# EAGLE library part SI5351C (library VNA)
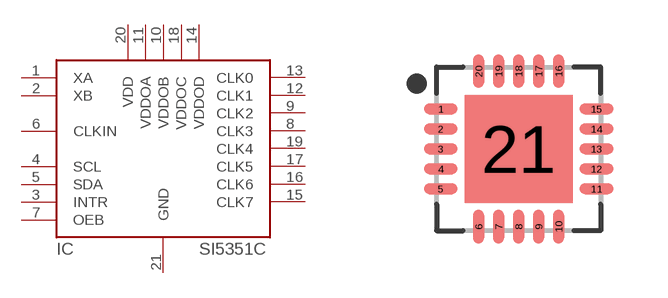
[diagram p1: symbol with the pads of QFN50P400X400X90-21T270N; footprint QFN50P400X400X90-21T270N]

Designator prefix IC

## SI5351C  [QFN50P400X400X90-21T270N]
1  XA
2  XB
3  INTR
4  SCL
5  SDA
6  CLKIN
7  OEB
8  CLK3
9  CLK2
10  VDDOB
11  VDDOA
12  CLK1
13  CLK0
14  VDDOD
15  CLK7
16  CLK6
17  CLK5
18  VDDOC
19  CLK4
20  VDD
21  GND

## Footprint QFN50P400X400X90-21T270N (pad centres in mm)
20-QFN, 0.50 mm pitch, 4.00 X 4.00 X 0.90 mm body, 2.70 X 2.70 mm thermal pad 20-pin QFN package with 0.50 mm pitch with body size 4.00 X 4.00 X 0.90 mm and thermal pad size 2.70 X 2.70 mm
smd 0.838 x 0.27: 1 -1.946,1; 2 -1.946,0.5; 3 -1.946,0; 4 -1.946,-0.5; 5 -1.946,-1; 11 1.946,-1; 12 1.946,-0.5; 13 1.946,0; 14 1.946,0.5; 15 1.946,1
smd 0.27 x 0.838: 6 -1,-1.946; 7 -0.5,-1.946; 8 0,-1.946; 9 0.5,-1.946; 10 1,-1.946; 16 1,1.946; 17 0.5,1.946; 18 0,1.946; 19 -0.5,1.946; 20 -1,1.946
smd 2.7 x 2.7: 21 0,0